# Altium schematic symbol library Sparkfun.SchLib: 5 symbols
Pins are listed as number, name and electrical type; pins without a type are passive.

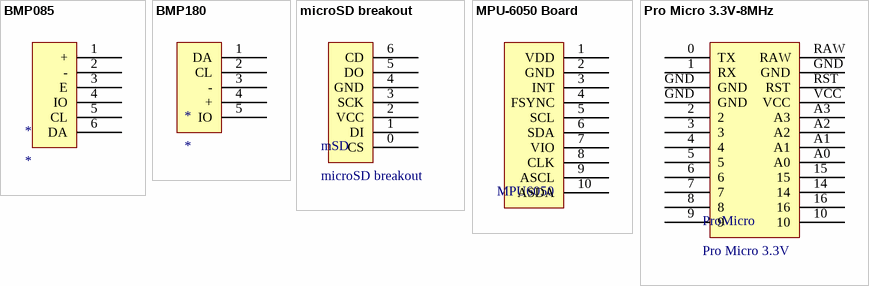
[diagram p0: symbols BMP085 to Pro Micro 3.3V-8MHz]

## BMP085
designator *
footprint BMP085 (Altimètre Barométrique)
pins: 1 +, 2 -, 3 E, 4 IO, 5 CL, 6 DA

## BMP180
designator *
footprint BMP180 Breakout (Altimètre Barométrique)
pins: 1 DA, 2 CL, 3 -, 4 +, 5 IO

## microSD breakout
designator mSD
footprint microSD breakout
pins: 0 CS, 1 DI, 2 VCC, 3 SCK, 4 GND, 5 DO, 6 CD

## MPU-6050 Board
designator MPU6050  (value not drawn)
footprint MPU-6050 Board
footprint MPU-6050 Board (Accéléromètre/Gyroscope)
pins: 1 VDD, 2 GND, 3 INT, 4 FSYNC, 5 SCL, 6 SDA, 7 VIO, 8 CLK, 9 ASCL, 10 ASDA

## Pro Micro 3.3V-8MHz
designator ProMicro, comment Pro Micro 3.3V
footprint ProMicro 3.3 V - 8MHz
pins: 0 TX, 1 RX, 2, 3, 4, 5, 6, 7, 8, 9, 10, 14, 15, 16, A0, A1, A2, A3, GND, GND, GND, RAW, RST, VCC